# Altium schematic symbol library SN74AHCT1G125DBVR.SchLib: 1 symbol
Pins are listed as number, name and electrical type; pins without a type are passive.

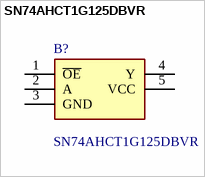
[diagram p0: symbol SN74AHCT1G125DBVR]

## SN74AHCT1G125DBVR
designator B?
74AHCT Single Tri-state Bus Buffer SOT23 SN74AHCT1G125DBVR, Bus Buffer, HCT, 8.5 ns@ 50 pF, 8mA 4.5 ??? 5.5 V 5-Pin SOT-23; Manufacturer_Name: Texas Instruments; Geometry.Height: 1.45mm; Mouser Part Number: 595-SNAHCT1G125DBVR; Mouser Price/Stock: https://www.mouser.co.uk/ProductDetail/Texas-Instruments/SN74AHCT1G125DBVR?qs=N6WZOzgtpqVaVW8Lh%252BgevA%3D%3D; Manufacturer_Part_Number: SN74AHCT1G125DBVR; Datasheet Link: http://www.ti.com/lit/ds/symlink/sn74ahct1g125.pdf
footprint SOT95P280X145-5N
pins: 1 ~{OE}, 2 A, 3 GND, 4 Y, 5 VCC (power)